# Altium schematic symbol library AD8227.Schlib: 1 symbol
Pins are listed as number, name and electrical type; pins without a type are passive.

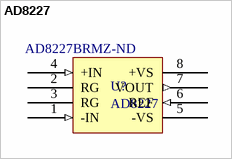
[diagram p0: symbol AD8227]

## AD8227
designator U?  Supplier Part Number 1: AD8227BRMZ-ND
Rail-to-rail instrumentation amplifier. Can operate on single supply.; Supplier 1: Digi-Key
footprint SOP65P300X125-8N (SOP + Pitch P + Lead Span Nominal X Height - #Pins)
pins: 1 -IN (in), 2 RG, 3 RG, 4 +IN (in), 5 -VS (power), 6 REF (in), 7 VOUT (out), 8 +VS (power)